# Altium integrated library dip-14.IntLib: 1 symbol
Pins are listed as number, name and electrical type; pins without a type are passive.

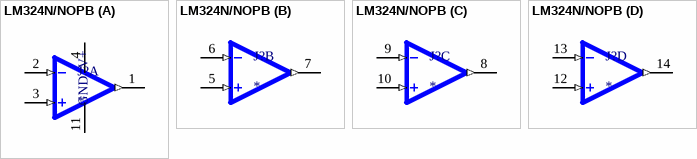
[diagram p0: symbol LM324N/NOPB]

## LM324N/NOPB
designator J?
4-Channel industry standard operational amplifier 14-PDIP 0 to 70; MP: LM324N; MF: Texas Instruments; Purchase-URL: https://pricing.snapeda.com/search/part/LM324N/?ref=eda; Package: PDIP-14 Texas Instruments; Price: None; Value: *; Availability: Good; Check_prices: https://www.snapeda.com/parts/LM324N/Texas%20Instruments/view-part/295/?ref=eda; SnapEDA_Link: https://www.snapeda.com/parts/LM324N/Texas%20Instruments/view-part/295/?ref=snap
footprint DIP825W47P254L1917H533Q14
part A pins: 1 1OUT (out), 2 1IN- (in), 3 1IN+ (in), 4 V+ (power), 11 GND (power)
part B pins: 5 2IN+ (in), 6 2IN- (in), 7 2OUT (out)
part C pins: 8 3OUT (out), 9 3IN- (in), 10 3IN+ (in)
part D pins: 12 4IN+ (in), 13 4IN- (in), 14 4OUT (out)